# Altium footprint library 接插杂件封装库.PcbLib: 41 footprints (part 1 of 3)
Each footprint in its own frame and in the unit in brackets; x right, y up, seen from the top. Pads: shape width x height; smd on the part's side, far side on the other; paste and mask are expansions set on the pad; w line width, h text height; cw(c..) or ccw(c..) is an arc to the next point about the centre after c.
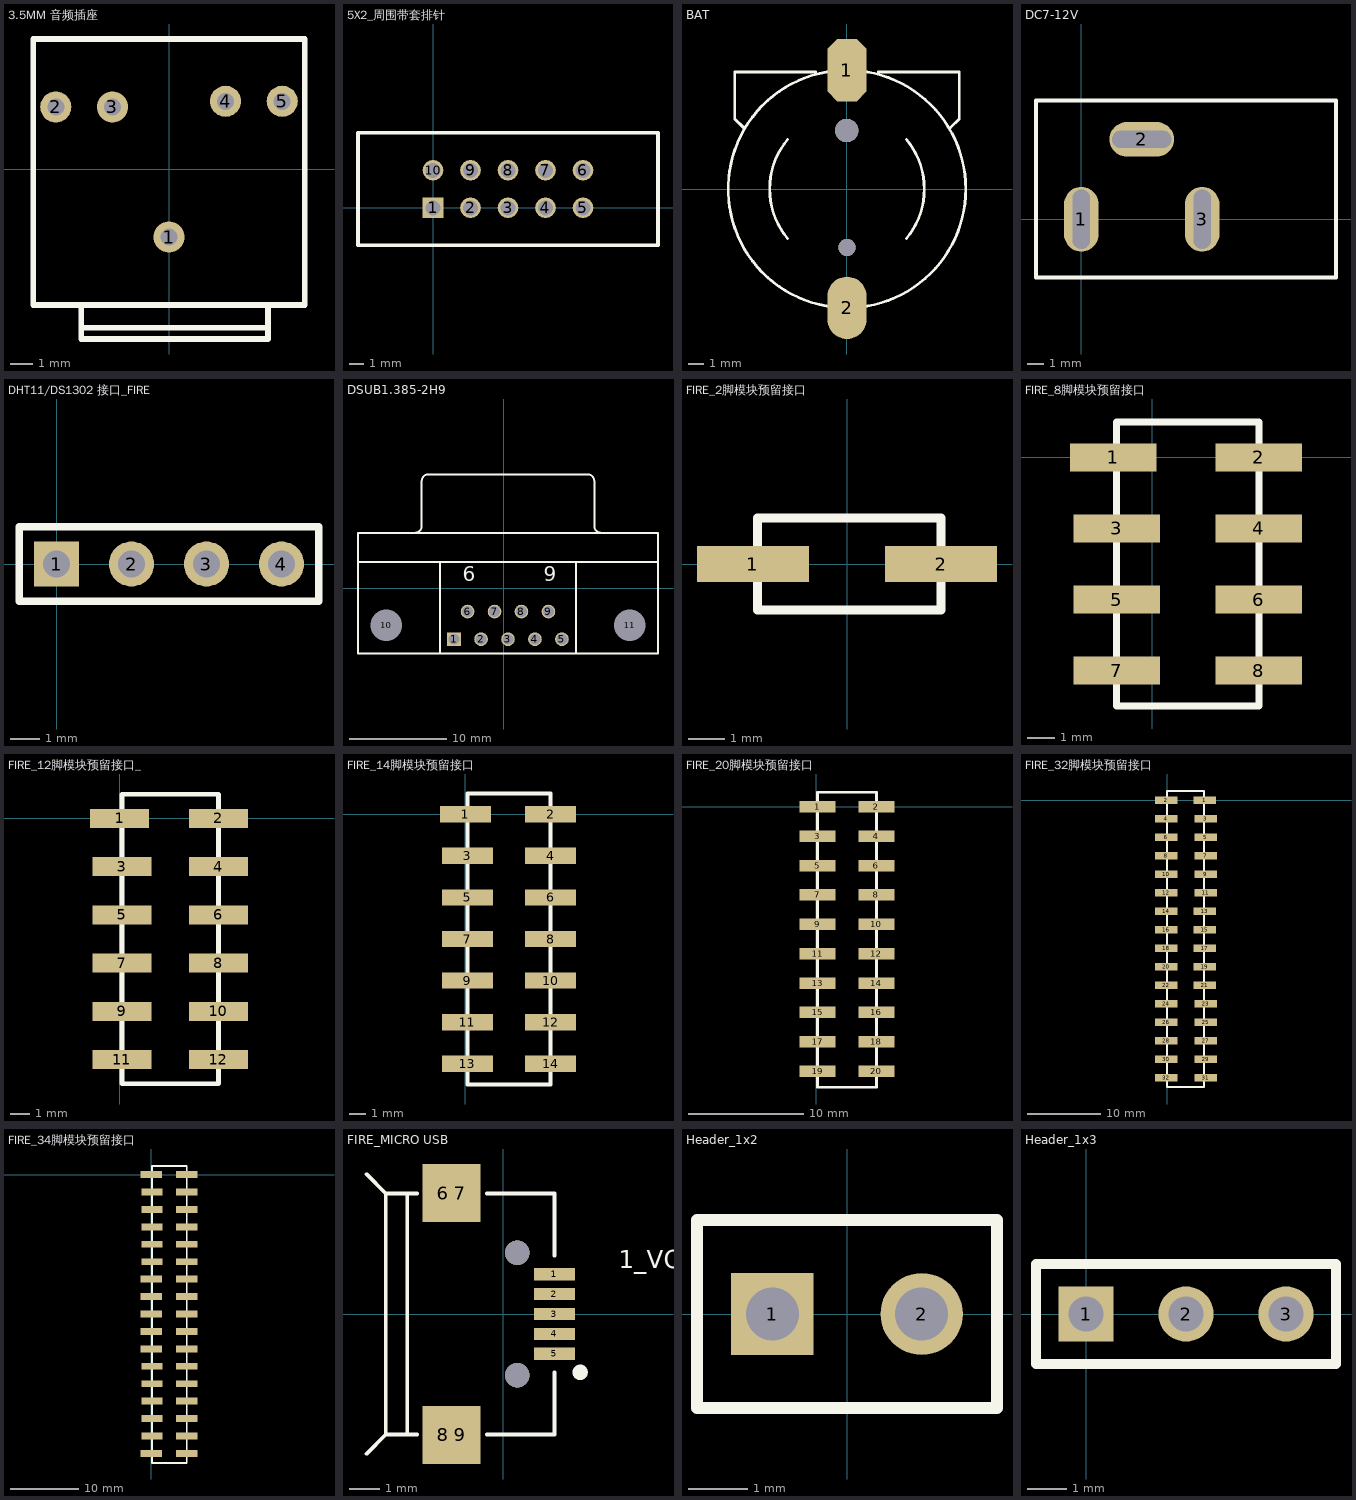
[diagram p0: the footprints below, top view; thin cyan lines are the x and y axes]

## 3.5MM 音频插座 [mil]
pads (5):
  round 55 hole 30: 1(0,-120) 2(-200,110) 3(-100,110) 4(100,120) 5(200,120)
Top Overlay:
  lines w10: -240,-10 -240,10 ; -155,-240 -155,-280 ; -10,-240 10,-240 ; 175,-240 175,-280 ; -155,-280 -155,-300 140,-300 175,-300 175,-280 ; -155,-280 175,-280 ; -240,-240 240,-240 240,230 -240,230 -240,-240

## 5X2_周围带套排针 [mil]
pads (10):
  rect 55x55 hole 40: 1(0,0)
  round 55 hole 40: 2(100,0) 3(200,0) 4(300,0) 5(400,0) 6(400,100) 7(300,100) 8(200,100) 9(100,100) 10(0,100)
Top Overlay:
  lines w10: -200,-100 -200,200 600,200 600,-100 -200,-100

## BAT [mm]
pads (4):
  oct 2.5x4 smd: 1(0.012,7.62)
  oval 2.5x4 smd: 2(0.012,-7.62)
  round 1.5 hole 1.5: ""(-0.012,3.75)
  round 1.1 hole 1.1: ""(0.012,-3.75)
Top Overlay:
  lines w0.178: -6.613,3.925 -7.188,4.5 -7.188,7.5 -1.987,7.5 ; -3.8,-3.172 cw(c0.012,0) -3.797,3.175 ; -0.821,-7.574 cw(c0.012,0) -0.821,7.574 ; 0.846,-7.574 ccw(c0.012,0) 7.632,0 ccw(c0.012,0) 0.846,7.574 ; 2.012,7.5 7.213,7.5 7.213,4.5 6.612,3.9 ; 3.825,-3.172 ccw(c0.012,0) 3.827,3.169

## DC7-12V [mil]
pads (3):
  oval 80x150 hole 40 slot 137.8 at 90 deg: 1(0,0) 3(280,0)
  oval 150x80 hole 40 slot 137.8 at 0 deg: 2(140,185)
Top Overlay:
  lines w10: -105,-135 -105,275 590,275 590,-135 -105,-135

## DHT11/DS1302 接口_FIRE [mil]
pads (4):
  rect 60x60 hole 35.44: 1(0,0)
  round 60 hole 35.44: 2(100,0) 3(200,0) 4(300,0)
Top Overlay:
  lines w10: -50,-50 -50,50 350,50 350,-50 -50,-50

## DSUB1.385-2H9 [mil]
pads (11):
  rect 55x55 hole 42.91: 1(-200,-205)
  round 55 hole 42.91: 2(-90.94,-205) 3(18.11,-205) 4(127.17,-205) 5(236.22,-205) 6(-145.47,-93.19) 7(-36.42,-93.19) 8(72.64,-93.19) 9(181.69,-93.19)
  round 55 hole 128.35: 10(-473.82,-149.09) 11(510.04,-149.09)
Top Overlay:
  lines w7.87: -588.19,106.81 624.41,106.81 ; -358.27,225.12 ccw(c-358.27,252.48) -330.91,252.48 -330.91,433.58 ; -330.71,433.78 cw(c-303.35,433.78) -303.35,461.14 339.57,461.14 cw(c339.57,433.78) 366.93,433.78 ; -257.48,-263.27 -257.48,106.81 ; 293.7,-263.27 293.7,106.81 ; 367.13,433.58 367.13,252.48 ccw(c394.49,252.48) 394.49,225.12 ; -588.19,-263.27 624.41,-263.27 624.41,224.92 -588.19,224.92 -588.19,-263.27
  text "6" at -165.16,29.06 h59.06
  text "9" at 162.01,29.06 h59.06

## FIRE_2脚模块预留接口 [mm]
pads (2):
  rect 3.1x1 smd: 1(-2.603,0) 2(2.603,0)
Top Overlay:
  lines w0.254: -2.476,-1.27 -2.476,1.27 2.603,1.27 2.603,-1.27 -2.476,-1.27

## FIRE_8脚模块预留接口 [mm] "贴片式"
pads (8):
  rect 3.1x1 smd: 1(-1.397,0) 2(3.81,0) 3(-1.27,-2.54) 4(3.81,-2.54) 5(-1.27,-5.08) 6(3.81,-5.08) 7(-1.27,-7.62) 8(3.81,-7.62)
Top Overlay:
  lines w0.254: -1.27,-8.89 3.81,-8.89 3.81,1.27 -1.27,1.27 -1.27,-8.89

## FIRE_12脚模块预留接口_ [mm] "贴片式"
pads (12):
  rect 3.1x1 smd: 1(0,0) 2(5.207,0) 3(0.127,-2.54) 4(5.207,-2.54) 5(0.127,-5.08) 6(5.207,-5.08) 7(0.127,-7.62) 8(5.207,-7.62) 9(0.127,-10.16) 10(5.207,-10.16) 11(0.127,-12.7) 12(5.207,-12.7)
Top Overlay:
  lines w0.254: 0.127,-13.97 5.207,-13.97 5.207,1.27 0.127,1.27 0.127,-13.97

## FIRE_14脚模块预留接口 [mm]
pads (14):
  rect 3.1x1 smd: 1(0,0) 2(5.207,0) 3(0.127,-2.54) 4(5.207,-2.54) 5(0.127,-5.08) 6(5.207,-5.08) 7(0.127,-7.62) 8(5.207,-7.62) 9(0.127,-10.16) 10(5.207,-10.16) 11(0.127,-12.7) 12(5.207,-12.7) 13(0.127,-15.24) 14(5.207,-15.24)
Top Overlay:
  lines w0.254: 0.127,-16.51 0.127,1.27 5.207,1.27 5.207,-16.51 0.127,-16.51

## FIRE_20脚模块预留接口 [mm] "贴片式"
pads (20):
  rect 3.1x1 smd: 1(0.127,0) 2(5.207,0) 3(0.127,-2.54) 4(5.207,-2.54) 5(0.127,-5.08) 6(5.207,-5.08) 7(0.127,-7.62) 8(5.207,-7.62) 9(0.127,-10.16) 10(5.207,-10.16) 11(0.127,-12.7) 12(5.207,-12.7) 13(0.127,-15.24) 14(5.207,-15.24) 15(0.127,-17.78) 16(5.207,-17.78) 17(0.127,-20.32) 18(5.207,-20.32) 19(0.127,-22.86) 20(5.207,-22.86)
Top Overlay:
  lines w0.254: 0.127,-24.257 0.127,1.27 5.207,1.27 5.207,-24.257 0.127,-24.257

## FIRE_32脚模块预留接口 [mm]
pads (32):
  rect 3.1x1 smd: 1(5.207,0) 2(-0.127,0) 3(5.334,-2.54) 4(-0.127,-2.54) 5(5.334,-5.08) 6(-0.127,-5.08) 7(5.334,-7.62) 8(-0.127,-7.62) 9(5.334,-10.16) 10(-0.127,-10.16) 11(5.334,-12.7) 12(-0.127,-12.7) 13(5.207,-15.24) 14(-0.127,-15.24) 15(5.207,-17.78) 16(-0.127,-17.78) 17(5.207,-20.32) 18(-0.127,-20.32) 19(5.207,-22.86) 20(-0.127,-22.86) 21(5.207,-25.4) 22(-0.127,-25.4) 23(5.334,-27.94) 24(-0.127,-27.94) 25(5.334,-30.48) 26(-0.127,-30.48) 27(5.334,-33.02) 28(-0.127,-33.02) 29(5.334,-35.56) 30(-0.127,-35.56) 31(5.334,-38.1) 32(-0.127,-38.1)
Top Overlay:
  lines w0.254: 0,-24.257 0,1.27 5.08,1.27 5.08,-24.257 ; 0,-24.13 0,-39.37 5.08,-39.37 5.08,-24.13

## FIRE_34脚模块预留接口 [mm]
pads (34):
  rect 3.1x1 smd: 1(0,0) 2(5.207,0) 3(0.127,-2.54) 4(5.207,-2.54) 5(0.127,-5.08) 6(5.207,-5.08) 7(0.127,-7.62) 8(5.207,-7.62) 9(0.127,-10.16) 10(5.207,-10.16) 11(0.127,-12.7) 12(5.207,-12.7) 13(0,-15.24) 14(5.207,-15.24) 15(0,-17.78) 16(5.207,-17.78) 17(0,-20.32) 18(5.207,-20.32) 19(0,-22.86) 20(5.207,-22.86) 21(0,-25.4) 22(5.207,-25.4) 23(0.127,-27.94) 24(5.207,-27.94) 25(0.127,-30.48) 26(5.207,-30.48) 27(0.127,-33.02) 28(5.207,-33.02) 29(0.127,-35.56) 30(5.207,-35.56) 31(0.127,-38.1) 32(5.207,-38.1) 33(0,-40.64) 34(5.207,-40.64)
Top Overlay:
  lines w0.254: 0.127,-42.037 0.127,-24.13 ; 0.127,-24.257 0.127,1.27 5.207,1.27 5.207,-24.257 ; 0.254,-42.037 5.207,-42.037 5.207,-24.13

## FIRE_MICRO USB [mm]
pads (7):
  rect 1.35x0.4 smd: 1(1.679,1.3) 2(1.679,0.65) 3(1.679,0) 4(1.679,-0.65) 5(1.679,-1.3)
  rect 1.9x1.9 smd: "6 7"(-1.679,3.95) "8 9"(-1.679,-3.95)
via 0.471,2 diameter 0.8 hole 0.8
via 0.471,-2 diameter 0.8 hole 0.8
Top Overlay:
  circle w0.25: c2.519,-1.905 r0.125
  lines w0.127: -4.459,-4.567 -3.829,-3.937 -2.813,-3.937 ; -4.459,4.567 -3.829,3.937 -2.813,3.937 ; -3.829,-3.9 -3.829,3.9 ; -3.13,-3.863 -3.13,3.937 ; -0.527,-3.937 1.679,-3.937 ; -0.527,3.937 1.679,3.937 ; 1.679,-3.9 1.679,-1.905 ; 1.679,1.905 1.679,3.9
  text "1_VCC" at 3.785,1.295 h1

## Header_1x2 [mil]
pads (2):
  rect 55x55 hole 35.5: 1(-50,0)
  round 55 hole 35.5: 2(50,0)
Top Overlay:
  lines w7.87: -100.39,-62.99 -100.39,62.99 100.39,62.99 100.39,-62.99 -100.39,-62.99

## Header_1x3 [mil]
pads (3):
  rect 55x55 hole 35.43: 1(0,0)
  round 55 hole 35.43: 2(100,0) 3(200,0)
Top Overlay:
  lines w10: -50,-50 250,-50 250,50 -50,50 -50,-50